# Altium footprint library SOT95P240X120-3N.PcbLib: 1 footprints
Each footprint in its own frame and in the unit in brackets; x right, y up, seen from the top. Pads: shape width x height; smd on the part's side, far side on the other; paste and mask are expansions set on the pad; w line width, h text height; cw(c..) or ccw(c..) is an arc to the next point about the centre after c.
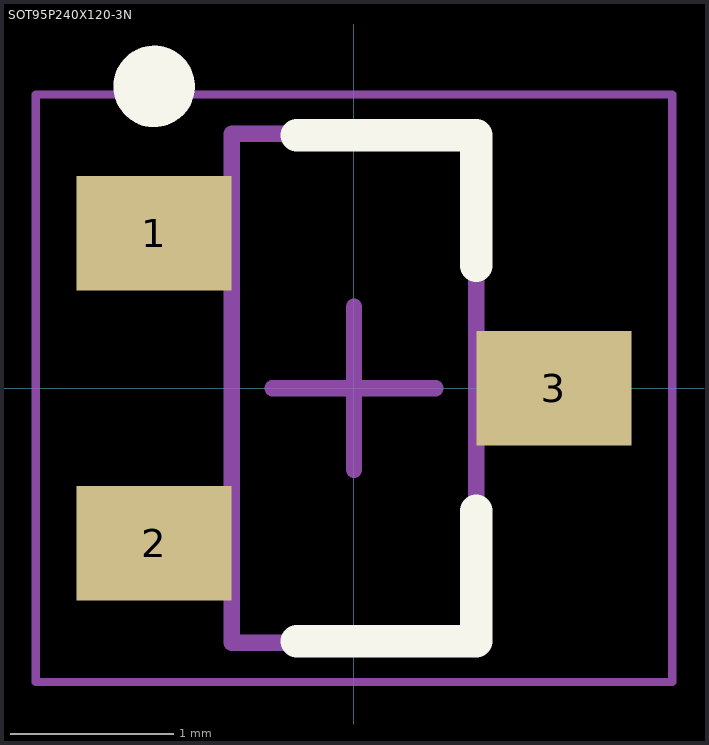
[diagram p0: the footprint, top view; thin cyan lines are the x and y axes]

## SOT95P240X120-3N [mm] "SOT23, 3-Leads, Body 2.92x2.40mm, Pitch 0.95mm, IPC Medium Density"
height 1.2
pads (3):
  rect 0.95x0.7 smd: 1(-1.225,0.95) 2(-1.225,-0.95) 3(1.225,0)
Top Overlay:
  circle w0.25: c-1.225,1.85 r0.125
  lines w0.2: -0.35,-1.55 0.75,-1.55 0.75,-0.75 ; -0.35,1.55 0.75,1.55 0.75,0.75
Mechanical 13:
  lines w0.1: -0.75,-1.56 -0.75,1.56 0.75,1.56 0.75,-1.56 -0.75,-1.56
Mechanical 15:
  lines w0.05: -1.95,-1.8 -1.95,1.8 1.95,1.8 1.95,-1.8 -1.95,-1.8
  lines w0.1: -0.5,0 0.5,0 ; 0,-0.5 0,0.5
3D body: height 1.2, standoff 0, extent -0.75,-1.56 0.75,1.56